# Altium footprint library Resistors.PcbLib: 1 footprints
Each footprint in its own frame and in the unit in brackets; x right, y up, seen from the top. Pads: shape width x height; smd on the part's side, far side on the other; paste and mask are expansions set on the pad; w line width, h text height; cw(c..) or ccw(c..) is an arc to the next point about the centre after c.
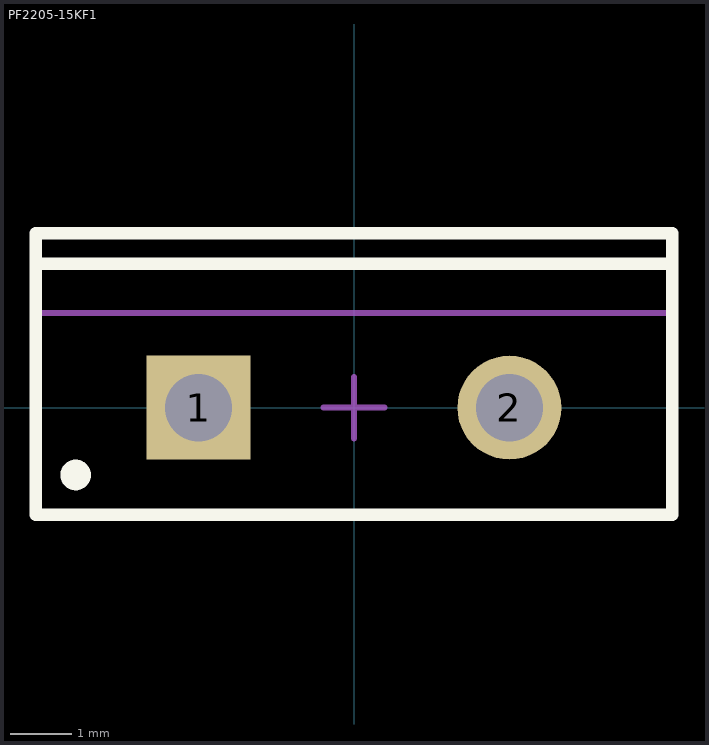
[diagram p0: the footprint, top view; thin cyan lines are the x and y axes]

## PF2205-15KF1 [mm] "RES 15K OHM 50W 1% TO220"
pads (2):
  rect 1.7x1.7 hole 1.1: 1(-2.54,0)
  round 1.7 hole 1.1: 2(2.54,0)
Top Overlay:
  circle w0.25: c-4.55,-1.1 r0.125
  lines w0.2: -5.2,2.35 5.2,2.35 ; -5.2,-1.75 -5.2,2.85 5.2,2.85 5.2,-1.75 -5.2,-1.75
Mechanical 13:
  lines w0.1: -5.2,1.55 5.2,1.55 ; -5.2,-1.75 5.2,-1.75 5.2,2.85 -5.2,2.85 -5.2,-1.75
Mechanical 15:
  lines w0.1: -0.5,0 0.5,0 ; 0,-0.5 0,0.5
3D body: height 19.7, standoff 13.05, extent -5.199,1.551 5.199,2.849
3D body: height 13.05, standoff 3.5, extent -5.25,-1.8 5.25,2.9